# Altium integrated library CGA4J2X8R1H104K125AA.IntLib: 1 symbol
Pins are listed as number, name and electrical type; pins without a type are passive.

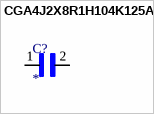
[diagram p0: symbol CGA4J2X8R1H104K125AA]

## CGA4J2X8R1H104K125AA
designator C?
0.1 ÂµF Â±10% 50V Ceramic Capacitor X8R 0805 (2012 Metric); MF: TDK; MP: CGA4J2X8R1H104K125AA; Purchase-URL: https://pricing.snapeda.com/search/part/CGA4J2X8R1H104K125AA/?ref=eda; Value: *; SnapEDA_Link: https://www.snapeda.com/parts/CGA4J2X8R1H104K125AA/TDK/view-part/?ref=snap; Package: 2012 TDK; Digi-Key_Part_Number: 445-5909-2-ND; Check_prices: https://www.snapeda.com/parts/CGA4J2X8R1H104K125AA/TDK/view-part/?ref=eda
footprint CAPC2012X145N
pins: 1, 2